# EAGLE library part AD5252BRU10 (library linear)
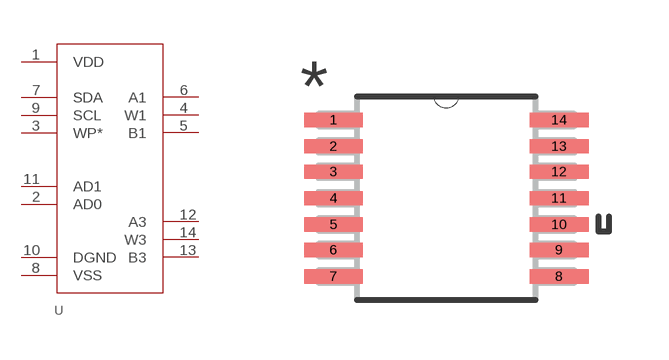
[diagram p2: symbol with the pads of RU_14; footprint RU_14]

Designator prefix U

## AD5252BRU10 (MANUFACTURER_PART_NUMBER: AD5252BRU10; VENDOR: Vendor)  [RU_14]
1  VDD  pwr
2  AD0  pas
3  WP*  pas
4  W1  pas
5  B1  pas
6  A1  pas
7  SDA  pas
8  VSS  pwr
9  SCL  pas
10  DGND  pas
11  AD1  pas
12  A3  pas
13  B3  pas
14  W3  pas

## Footprint RU_14 (pad centres in mm)
smd 1.473 x 0.356: 1 -2.819,1.956; 2 -2.819,1.295; 3 -2.819,0.66; 4 -2.819,0; 5 -2.819,-0.66; 6 -2.819,-1.295; 7 -2.819,-1.956; 8 2.819,-1.956; 9 2.819,-1.295; 10 2.819,-0.66; 11 2.819,0; 12 2.819,0.66; 13 2.819,1.295; 14 2.819,1.956